# EAGLE library part Z80BUS (library falk)
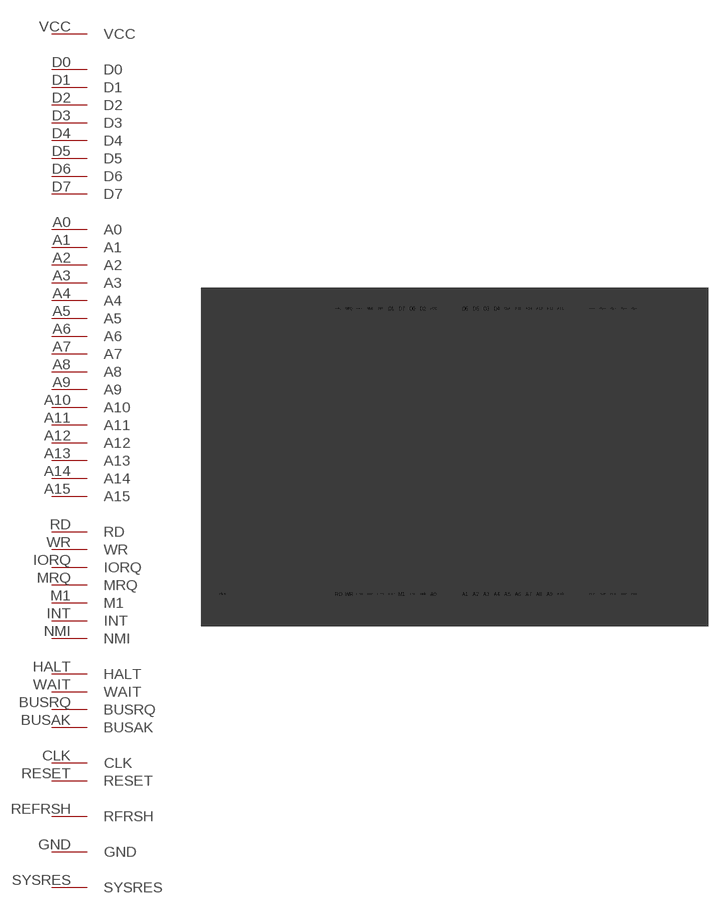
[diagram p0: symbol with the pads of BUS; footprint BUS]

Designator prefix -

## Z80BUS  [BUS]
A0  A0
A1  A1
A2  A2
A3  A3
A4  A4
A5  A5
A6  A6
A7  A7
A8  A8
A9  A9
A10  A10
A11  A11
A12  A12
A13  A13
A14  A14
A15  A15
BUSAK  BUSAK
BUSRQ  BUSRQ
CLK  CLK
D0  D0
D1  D1
D2  D2
D3  D3
D4  D4
D5  D5
D6  D6
D7  D7
GND  GND
HALT  HALT
INT  INT
IORQ  IORQ
M1  M1
MRQ  MRQ
NMI  NMI
RD  RD
REFRSH  RFRSH
RESET  RESET
SYSRES  SYSRES
VCC  VCC
WAIT  WAIT
WR  WR

## Footprint BUS (pad centres in mm)
drill 0.8: A0 -5.08,-33.02; A1 2.54,-33.02; A2 5.08,-33.02; A3 7.62,-33.02; A4 10.16,-33.02; A5 12.7,-33.02; A6 15.24,-33.02; A7 17.78,-33.02; A8 20.32,-33.02; A9 22.86,-33.02; A10 25.4,-33.02; A11 25.4,35.56; A12 22.86,35.56; A13 20.32,35.56; A14 17.78,35.56; A15 15.24,35.56; BUSAK -22.86,-33.02; BUSRQ -17.78,-33.02; CLK 12.7,35.56; D0 -10.16,35.56; D1 -15.24,35.56; D2 -7.62,35.56; D3 7.62,35.56; D4 10.16,35.56; D5 5.08,35.56; D6 2.54,35.56; D7 -12.7,35.56; GND -7.62,-33.02; HALT -22.86,35.56; INT -17.78,35.56; IORQ -27.94,35.56; M1 -12.7,-33.02; MRQ -25.4,35.56; NMI -20.32,35.56; P$4 -55.88,-33.02; P$20 43.18,35.56; P$28 35.56,35.56; P$29 38.1,35.56; P$30 40.64,35.56; P$47 33.02,-33.02; P$48 35.56,-33.02; P$49 38.1,-33.02; P$50 40.64,-33.02; P$51 43.18,-33.02; RD -27.94,-33.02; REFRSH -10.16,-33.02; RESET -15.24,-33.02; SYSRES 33.02,35.56; VCC -5.08,35.56; WAIT -20.32,-33.02; WR -25.4,-33.02